# EAGLE library part RPI (library home-mind)
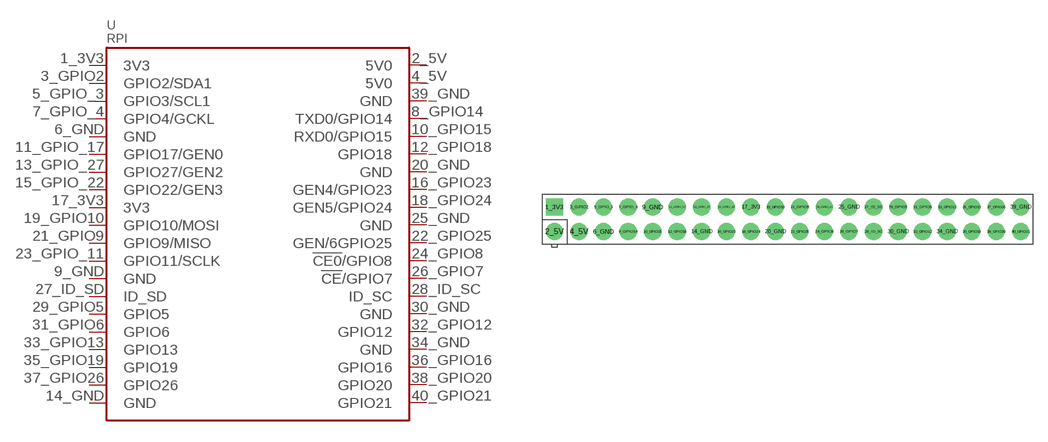
[diagram p6: symbol with the pads of RPI; footprint RPI]

Designator prefix -

## RPI  [RPI]
1_3V3  3V3  sup
2_5V  5V0  sup
3_GPIO2  GPIO2/SDA1
4_5V  5V0  sup
5_GPIO_3  GPIO3/SCL1
6_GND  GND  sup
7_GPIO_4  GPIO4/GCKL
8_GPIO14  TXD0/GPIO14
9_GND  GND  sup
10_GPIO15  RXD0/GPIO15
11_GPIO_17  GPIO17/GEN0
12_GPIO18  GPIO18
13_GPIO_27  GPIO27/GEN2
14_GND  GND  sup
15_GPIO_22  GPIO22/GEN3
16_GPIO23  GEN4/GPIO23
17_3V3  3V3  sup
18_GPIO24  GEN5/GPIO24
19_GPIO10  GPIO10/MOSI
20_GND  GND  sup
21_GPIO9  GPIO9/MISO
22_GPIO25  GEN/6GPIO25
23_GPIO_11  GPIO11/SCLK
24_GPIO8  !CE0!/GPIO8
25_GND  GND  sup
26_GPIO7  !CE!/GPIO7
27_ID_SD  ID_SD
28_ID_SC  ID_SC
29_GPIO5  GPIO5
30_GND  GND  sup
31_GPIO6  GPIO6
32_GPIO12  GPIO12
33_GPIO13  GPIO13
34_GND  GND  sup
35_GPIO19  GPIO19
36_GPIO16  GPIO16
37_GPIO26  GPIO26
38_GPIO20  GPIO20
39_GND  GND  sup
40_GPIO21  GPIO21

## Footprint RPI (pad centres in mm)
drill 1 pad 1.778 square: 1_3V3 -24.65,1.1
drill 0.9 pad 1.778: 2_5V -24.65,-1.44; 3_GPIO2 -22.11,1.1; 4_5V -22.11,-1.44; 5_GPIO_3 -19.57,1.1; 6_GND -19.57,-1.44; 7_GPIO_4 -17.03,1.1; 8_GPIO14 -17.03,-1.44; 9_GND -14.49,1.1; 10_GPIO15 -14.49,-1.44; 11_GPIO_17 -11.95,1.1; 12_GPIO18 -11.95,-1.44; 13_GPIO_27 -9.41,1.1; 14_GND -9.41,-1.44; 15_GPIO_22 -6.87,1.1; 16_GPIO23 -6.87,-1.44; 17_3V3 -4.33,1.1; 18_GPIO24 -4.33,-1.44; 19_GPIO10 -1.79,1.1; 20_GND -1.79,-1.44; 21_GPIO9 0.75,1.1; 22_GPIO25 0.75,-1.44; 23_GPIO_11 3.29,1.1; 24_GPIO8 3.29,-1.44; 25_GND 5.83,1.1; 26_GPIO7 5.83,-1.44; 27_ID_SD 8.37,1.1; 28_ID_SC 8.37,-1.44; 29_GPIO5 10.91,1.1; 30_GND 10.91,-1.44; 31_GPIO6 13.45,1.1; 32_GPIO12 13.45,-1.44; 33_GPIO13 15.99,1.1; 34_GND 15.99,-1.44; 35_GPIO19 18.53,1.1; 36_GPIO16 18.53,-1.44; 37_GPIO26 21.07,1.1; 38_GPIO20 21.07,-1.44; 39_GND 23.61,1.1; 40_GPIO21 23.61,-1.44